# EAGLE library part LM358 (library gost_micro)
OP AMP also LM158; LM258; LM2904 Source: http://cache.national.com/ds/LM/LM158.pdf
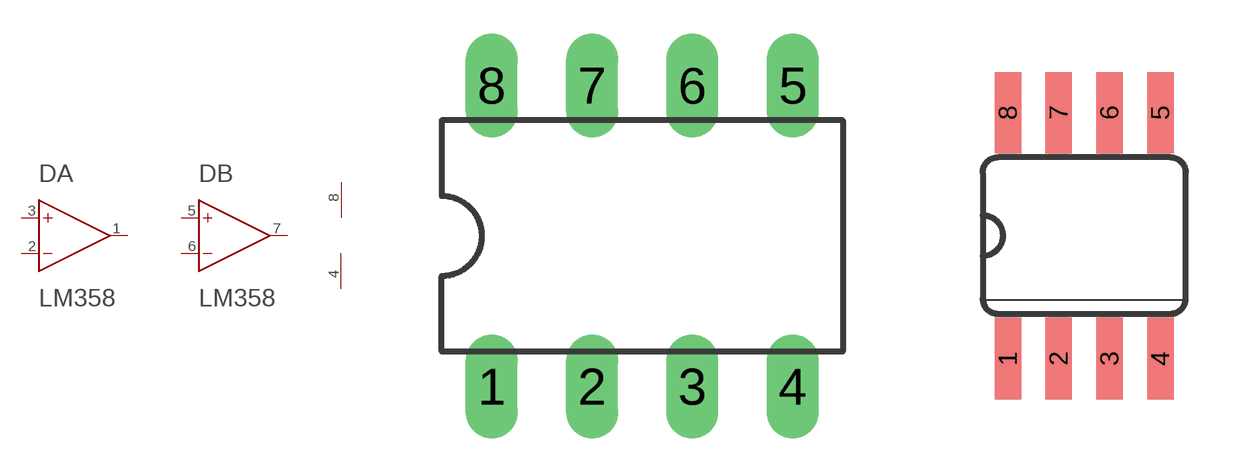
[diagram p11: symbol with the pads of DIL08; footprints DIL08, SO08]

Designator prefix D; gates A=OPAMP B=OPAMP P=OPAMP_P

## LM358N  [DIL08]
1  A:Q  out
2  A:-IN  in
3  A:+IN  in
4  P:P-
5  B:+IN  in
6  B:-IN  in
7  B:Q  out
8  P:P+

## LM358D  [SO08]
Pads as for DIL08

## Footprint DIL08 (pad centres in mm)
Dual In Line Package
drill 0.813 long: 1 -3.81,-3.81; 2 -1.27,-3.81; 3 1.27,-3.81; 4 3.81,-3.81; 5 3.81,3.81; 6 1.27,3.81; 7 -1.27,3.81; 8 -3.81,3.81

## Footprint SO08 (pad centres in mm)
Small Outline package 8 150 mil
smd 0.66 x 2.032: 1 -1.905,-3.073; 2 -0.635,-3.073; 3 0.635,-3.073; 4 1.905,-3.073; 5 1.905,3.073; 6 0.635,3.073; 7 -0.635,3.073; 8 -1.905,3.073